# EAGLE library part FPC-SOCKET-0.5-20P (library Connector)
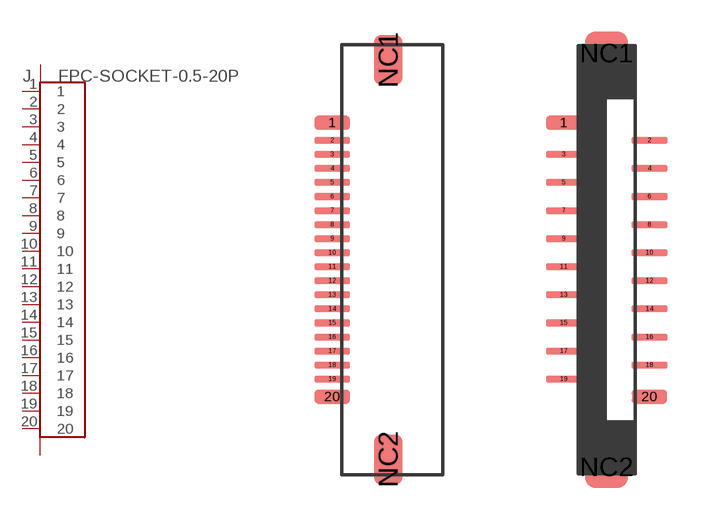
[diagram p1: symbol with the pads of 20P-0.5-HO; footprints 20P-0.5-HO, 20P-0.5-VE]

Designator prefix J

## FPC-SOCKET-0.5-20P-HO  [20P-0.5-HO]
1  1
2  2
3  3
4  4
5  5
6  6
7  7
8  8
9  9
10  10
11  11
12  12
13  13
14  14
15  15
16  16
17  17
18  18
19  19
20  20
NC1  G1
NC2  G2

## FPC-SOCKET-0.5-20P-VE  [20P-0.5-VE]
Pads as for 20P-0.5-HO

## Footprint 20P-0.5-HO (pad centres in mm)
smd 1.27 x 0.508: 1 -0.339,4.877; 20 -0.339,-4.877
smd 1.27 x 0.254: 2 -0.339,4.25; 3 -0.339,3.75; 4 -0.339,3.25; 5 -0.339,2.75; 6 -0.339,2.25; 7 -0.339,1.75; 8 -0.339,1.25; 9 -0.339,0.75; 10 -0.339,0.25; 11 -0.339,-0.25; 12 -0.339,-0.75; 13 -0.339,-1.25; 14 -0.339,-1.75; 15 -0.339,-2.25; 16 -0.339,-2.75; 17 -0.339,-3.25; 18 -0.339,-3.75; 19 -0.339,-4.25
smd 1.016 x 1.778: NC1 1.651,7.112; NC2 1.651,-7.112

## Footprint 20P-0.5-VE (pad centres in mm)
smd 1.27 x 0.508: 1 -1.524,4.877; 20 1.524,-4.877
smd 1.27 x 0.254: 2 1.524,4.25; 3 -1.524,3.75; 4 1.524,3.25; 5 -1.524,2.75; 6 1.524,2.25; 7 -1.524,1.75; 8 1.524,1.25; 9 -1.524,0.75; 10 1.524,0.25; 11 -1.524,-0.25; 12 1.524,-0.75; 13 -1.524,-1.25; 14 1.524,-1.75; 15 -1.524,-2.25; 16 1.524,-2.75; 17 -1.524,-3.25; 18 1.524,-3.75; 19 -1.524,-4.25
smd 1.524 x 1.524: NC1 0,7.366; NC2 0,-7.366